# Altium schematic symbol library module.SchLib: 14 symbols
Pins are listed as number, name and electrical type; pins without a type are passive.

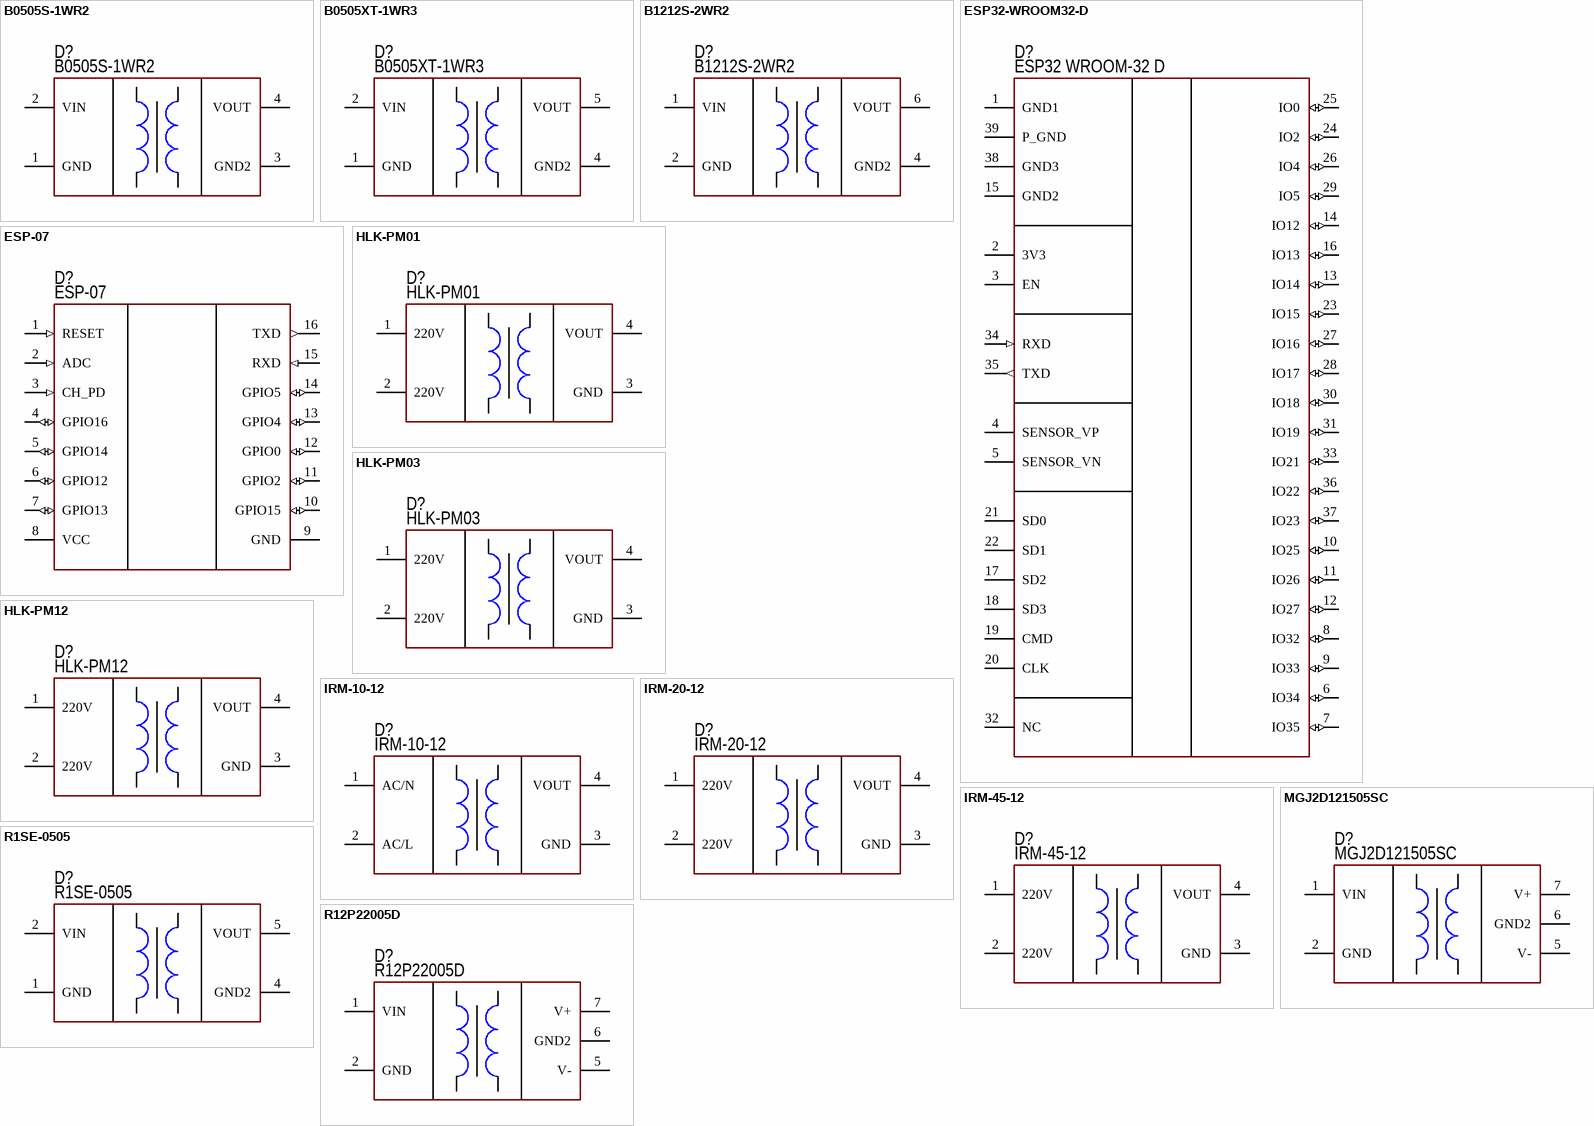
[diagram p0: symbols B0505S-1WR2 to R12P22005D]

## B0505S-1WR2
designator D?  PartNumber: B0505S-1WR2
DC/DC converter; Manufacturer: Mornsun; ValueManufacturerPartNumber: DC/DC converter, isolator, 5V 200mA, -40...+105°C, SIP-4; OutputType: isolator; OutputVoltage: 5V 200mA; HelpURL: https://www.chipdip.ru/product/b0505s-1wr2; Package: SIP-4; ComponentType: DC/DC converter; Temperature: -40...+105°C
footprint MOD: SIP-4 (B0505S-1W)
pins: 1 GND (power), 2 VIN (power), 3 GND2 (power), 4 VOUT (power)

## B0505XT-1WR3
designator D?  PartNumber: B0505XT-1WR3
DC/DC converter; Manufacturer: Mornsun; ValueManufacturerPartNumber: DC/DC converter, isolator, 5V 200mA, -40...+105°C, SMD-8; OutputType: isolator; OutputVoltage: 5V 200mA; HelpURL: https://www.mornsun-power.com/html/products/35/0.25-3w-smd.html; Package: SMD-8; ComponentType: DC/DC converter; Temperature: -40...+105°C
footprint MOD: B0505XT-1WR3
pins: 1 GND (power), 2 VIN (power), 4 GND2 (power), 5 VOUT (power)

## B1212S-2WR2
designator D?  PartNumber: B1212S-2WR2
DC/DC converter; Manufacturer: Mornsun; ValueManufacturerPartNumber: DC/DC converter, isolator, 12V 167mA, -40...+105°C, SIP-7; OutputType: isolator; OutputVoltage: 12V 167mA; HelpURL: https://www.compel.ru/infosheet/MORNSUN/B1212S-2WR2; Package: SIP-7; ComponentType: DC/DC converter; Temperature: -40...+105°C
footprint MOD: SIP-7 (B1212S-2W)
pins: 1 VIN (power), 2 GND (power), 4 GND2 (power), 6 VOUT (power)

## ESP32-WROOM32-D
designator D?  PartNumber: ESP32 WROOM-32 D
Wi-Fi; Manufacturer: Espressif Systems; ValueManufacturerPartNumber: Wi-Fi module, WiFi 802.11 b/g/n (802.11n up to 150 Mbps) / Bluetooth v4.2 BR/EDR and BLE specification, 32 bit, SD card, UART, SPI, SDIO, I2C, LED PWM, Motor PWM, I2S, IR, pulse counter, GPIO, capacitive touch sensor, ADC, DAC, -40...+85°C, 18x25.5x3.1; Core: 32 bit; TypeInterface: SD card, UART, SPI, SDIO, I2C, LED PWM, Motor PWM, I2S, IR, pulse counter, GPIO, capacitive touch sensor, ADC, DAC; TypeStandart: WiFi 802.11 b/g/n (802.11n up to 150 Mbps) / Bluetooth v4.2 BR/EDR and BLE specification; HelpURL: https://www.espressif.com/sites/default/files/documentation/esp32-wroom-32d_esp32-wroom-32u_datasheet_en.pdf; Package: 18x25.5x3.1; ComponentType: Wi-Fi module; Temperature: -40...+85°C
footprint MOD: ESP32-WROOM32-D
pins: 1 GND1 (power), 2 3V3 (power), 3 EN, 4 SENSOR_VP, 5 SENSOR_VN, 6 IO34 (io), 7 IO35 (io), 8 IO32 (io), 9 IO33 (io), 10 IO25 (io), 11 IO26 (io), 12 IO27 (io), 13 IO14 (io), 14 IO12 (io), 15 GND2 (power), 16 IO13 (io), 17 SD2, 18 SD3, 19 CMD, 20 CLK, 21 SD0, 22 SD1, 23 IO15 (io), 24 IO2 (io), 25 IO0 (io), 26 IO4 (io), 27 IO16 (io), 28 IO17 (io), 29 IO5 (io), 30 IO18 (io), 31 IO19 (io), 32 NC, 33 IO21 (io), 34 RXD (in), 35 TXD (out), 36 IO22 (io), 37 IO23 (io), 38 GND3 (power), 39 P_GND (power)

## ESP-07
designator D?  PartNumber: ESP-07
Wi-Fi; Manufacturer: Espressif Systems; ValueManufacturerPartNumber: Wi-Fi module, 802.11 b/g/n, 8 bit, SDIO/SPI/UART, -40...+85°C, 21x16mm; Core: 8 bit; TypeInterface: SDIO/SPI/UART; TypeStandart: 802.11 b/g/n; HelpURL: https://www.chipdip.ru/product/esp-07; Package: 21x16mm; ComponentType: Wi-Fi module; Temperature: -40...+85°C
footprint MOD: ESP-07
pins: 1 RESET (in), 2 ADC (in), 3 CH_PD (in), 4 GPIO16 (io), 5 GPIO14 (io), 6 GPIO12 (io), 7 GPIO13 (io), 8 VCC (power), 9 GND (power), 10 GPIO15 (io), 11 GPIO2 (io), 12 GPIO0 (io), 13 GPIO4 (io), 14 GPIO5 (io), 15 RXD (in), 16 TXD (out)

## HLK-PM01
designator D?  PartNumber: HLK-PM01
AC/DC converter; Manufacturer: Mornsun; ValueManufacturerPartNumber: AC/DC converter, isolator, 5V 600mA, 100...240VAC, -40...+105°C, 30x20x15mm; OutputType: isolator; OutputVoltage: 5V 600mA; InputVoltage: 100...240VAC; HelpURL: https://ru.aliexpress.com/item/32408565688.html; Package: 30x20x15mm; ComponentType: AC/DC converter; Temperature: -40...+105°C
footprint MOD: HLK-PM01
pins: 1 220V (power), 2 220V (power), 3 GND (power), 4 VOUT (power)

## HLK-PM03
designator D?  PartNumber: HLK-PM03
AC/DC converter; Manufacturer: Mornsun; ValueManufacturerPartNumber: AC/DC converter, isolator, 3V 900mA, 100...240VAC, -40...+105°C, 30x20x15mm; OutputType: isolator; OutputVoltage: 3V 900mA; InputVoltage: 100...240VAC; HelpURL: https://ru.aliexpress.com/item/32408565688.html; Package: 30x20x15mm; ComponentType: AC/DC converter; Temperature: -40...+105°C
footprint MOD: HLK-PM01
pins: 1 220V (power), 2 220V (power), 3 GND (power), 4 VOUT (power)

## HLK-PM12
designator D?  PartNumber: HLK-PM12
AC/DC converter; Manufacturer: Mornsun; ValueManufacturerPartNumber: AC/DC converter, isolator, 12V 250mA, 100...240VAC, -40...+105°C, 30x20x15mm; OutputType: isolator; OutputVoltage: 12V 250mA; InputVoltage: 100...240VAC; HelpURL: https://ru.aliexpress.com/item/32408565688.html; Package: 30x20x15mm; ComponentType: AC/DC converter; Temperature: -40...+105°C
footprint MOD: HLK-PM01
pins: 1 220V (power), 2 220V (power), 3 GND (power), 4 VOUT (power)

## IRM-10-12
designator D?  PartNumber: IRM-10-12
AC/DC converter; Manufacturer: MEAN WELL; ValueManufacturerPartNumber: AC/DC converter, isolator, 12V 850mA, 85...265VAC, -30...+70°C, 4-DIP; OutputType: isolator; OutputVoltage: 12V 850mA; InputVoltage: 85...265VAC; HelpURL: https://www.digikey.com/products/en?keywords=IRM-10-12; Package: 4-DIP; ComponentType: AC/DC converter; Temperature: -30...+70°C
footprint MOD: IRM-10-12
pins: 1 AC/N (power), 2 AC/L (power), 3 GND (power), 4 VOUT (power)

## IRM-20-12
designator D?  PartNumber: IRM-20-12
AC/DC converter; Manufacturer: MEAN WELL; ValueManufacturerPartNumber: AC/DC converter, isolator, 12V 1.8A, 85...265VAC, -30...+70°C, 4-DIP; OutputType: isolator; OutputVoltage: 12V 1.8A; InputVoltage: 85...265VAC; HelpURL: https://www.digikey.com/products/en?keywords=IRM-20-12; Package: 4-DIP; ComponentType: AC/DC converter; Temperature: -30...+70°C
footprint MOD: IRM-20-12
pins: 1 220V (power), 2 220V (power), 3 GND (power), 4 VOUT (power)

## IRM-45-12
designator D?  PartNumber: IRM-45-12
AC/DC converter; Manufacturer: MEAN WELL; ValueManufacturerPartNumber: AC/DC converter, isolator, 12V 3.8A, 85...265VAC, -30...+70°C, 4-DIP; OutputType: isolator; OutputVoltage: 12V 3.8A; InputVoltage: 85...265VAC; HelpURL: https://www.digikey.com/product-detail/en/mean-well-usa-inc/IRM-45-12/1866-3053-ND/7704678; Package: 4-DIP; ComponentType: AC/DC converter; Temperature: -30...+70°C
footprint MOD: IRM-45-12
pins: 1 220V (power), 2 220V (power), 3 GND (power), 4 VOUT (power)

## MGJ2D121505SC
designator D?  PartNumber: MGJ2D121505SC
DC/DC converter; Manufacturer: Murata; ValueManufacturerPartNumber: DC/DC converter, isolator 5200V, +15/-5V 2W, -40...+100°C, SIP-7; OutputType: isolator 5200V; OutputVoltage: +15/-5V 2W; HelpURL: https://www.digikey.com/product-detail/en/murata-power-solutions-inc/MGJ2D121505SC/811-3001-5-ND/4840068; Package: SIP-7; ComponentType: DC/DC converter; Temperature: -40...+100°C
footprint MOD: MGJ2D121505SC (SIP-7)
pins: 1 VIN (power), 2 GND (power), 5 V- (power), 6 GND2 (power), 7 V+ (power)

## R1SE-0505
designator D?  PartNumber: R1SE-0505
DC/DC converter; Manufacturer: Recom Power; ValueManufacturerPartNumber: DC/DC converter, isolator, 5V 200mA, -40...+85°C, 8-SMD; OutputType: isolator; OutputVoltage: 5V 200mA; HelpURL: https://www.digikey.com/product-detail/en/recom-power/R1SE-0505/945-3306-ND/4503711; Package: 8-SMD; ComponentType: DC/DC converter; Temperature: -40...+85°C
footprint MOD: R1SE
pins: 1 GND (power), 2 VIN (power), 4 GND2 (power), 5 VOUT (power)

## R12P22005D
designator D?  PartNumber: R12P22005D
DC/DC converter; Manufacturer: Recom Power; ValueManufacturerPartNumber: DC/DC converter, isolator, +20/-5V 2W, -40...+105°C, SIP-7; OutputType: isolator; OutputVoltage: +20/-5V 2W; HelpURL: https://www.digikey.com/product-detail/en/recom-power/R12P22005D/945-3056-ND/5881287; Package: SIP-7; ComponentType: DC/DC converter; Temperature: -40...+105°C
footprint MOD: R12P22005D
pins: 1 VIN (power), 2 GND (power), 5 V- (power), 6 GND2 (power), 7 V+ (power)